# Altium footprint library L78XX_series.PcbLib: 2 footprints
Each footprint in its own frame and in the unit in brackets; x right, y up, seen from the top. Pads: shape width x height; smd on the part's side, far side on the other; paste and mask are expansions set on the pad; w line width, h text height; cw(c..) or ccw(c..) is an arc to the next point about the centre after c.
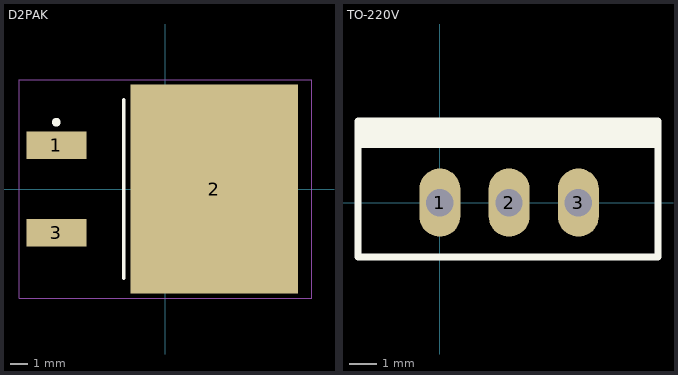
[diagram p0: the footprints below, top view; thin cyan lines are the x and y axes]

## D2PAK [mm] "D2-PAK, 3-Pads, Body 7,10x8,56mm (max), IPC Medium Density"
height 4.4
pads (3):
  rect 3.5x1.6 smd: 1(-6.35,2.54) 3(-6.35,-2.54)
  rect 9.75x12.2 smd: 2(2.85,0)
Top Overlay:
  circle w0.25: c-6.35,3.89 r0.125
  lines w0.2: -2.425,-5.2 -2.425,5.2
Mechanical 13:
  lines w0.1: -1.55,-5.2 -1.55,5.2 6.45,5.2 6.45,-5.2 -1.55,-5.2
Mechanical 15:
  lines w0.05: -8.525,-6.35 -8.525,6.35 8.525,6.35 8.525,-6.35 -8.525,-6.35
  lines w0.1: -0.5,0 0.5,0 ; 0,-0.5 0,0.5
3D body: height 4.6, standoff -0.03, extent -7.45,-5.175 8.4,5.225

## TO-220V [mm]
pads (3):
  oval 1.5x2.5 hole 1: 1(0,0) 2(2.54,0) 3(5.08,0)
Top Overlay:
  rectangle: -3,2 8,3
  lines w0.254: -3,-2 8,-2 8,3 -3,3 -3,-2
3D body: height 21.86, standoff -2, extent -2.76,-2.225 7.91,2.605